# Altium footprint library SO-8_S.PcbLib: 1 footprints
Each footprint in its own frame and in the unit in brackets; x right, y up, seen from the top. Pads: shape width x height; smd on the part's side, far side on the other; paste and mask are expansions set on the pad; w line width, h text height; cw(c..) or ccw(c..) is an arc to the next point about the centre after c.
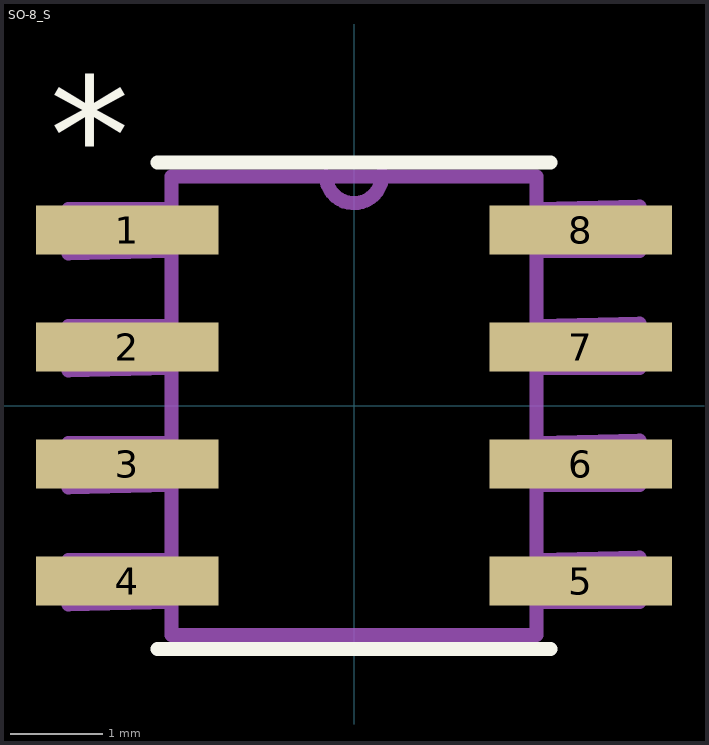
[diagram p0: the footprint, top view; thin cyan lines are the x and y axes]

## SO-8_S [mil]
pads (8):
  rect 78x21 smd: 1(-97,75) 2(-97,25) 3(-97,-25) 4(-97,-75) 5(97,-75) 6(97,-25) 7(97,25) 8(97,75)
Top Overlay:
  lines w6: -84,-104 84,-104 ; -84,104 84,104
  text "*" at -130,91 h50
Mechanical 13:
  lines w6: -12,98.08 ccw(c0,98.5) 12,98.92 ; -122,-85 -122,-66 -78,-66 -78,-84 -122,-85 ; -122,-35 -122,-16 -78,-16 -78,-34 -122,-35 ; -122,15 -122,34 -78,34 -78,16 -122,15 ; -122,65 -122,84 -78,84 -78,66 -122,65 ; -78,-98 78,-98 78,98 -12,98 -78,98 -78,-98 ; 78,-84 78,-66 122,-65 122,-84 78,-84 ; 78,-34 78,-16 122,-15 122,-34 78,-34 ; 78,16 78,34 122,35 122,16 78,16 ; 78,66 78,84 122,85 122,66 78,66
  text "*" at -86,46 h50